# EAGLE library part 4020152 (library ampex)
RECORD EXTENDER
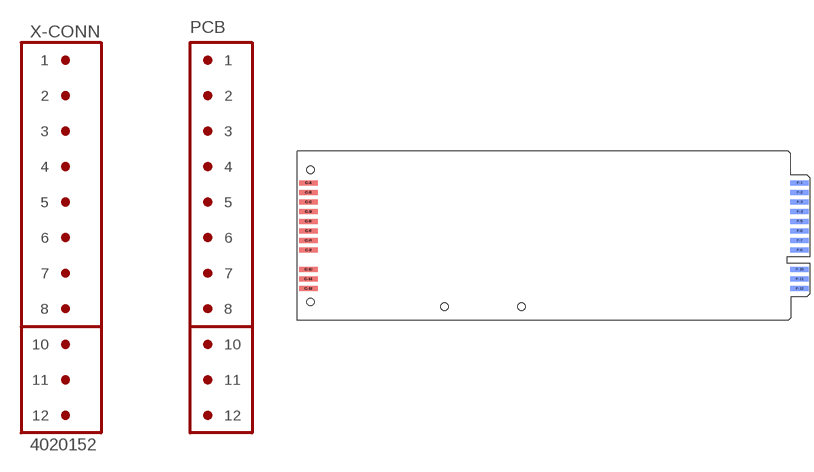
[diagram p15: symbol with the pads of 4020152; footprint 4020152]

Designator prefix X; gates -FINGER=REC-EXT-EDGE -CONN=REC-EXT-CON

## 4020152  [4020152]
C-1  -CONN:1  pas
C-2  -CONN:2  pas
C-3  -CONN:3  pas
C-4  -CONN:4  pas
C-5  -CONN:5  pas
C-6  -CONN:6  pas
C-7  -CONN:7  pas
C-8  -CONN:8  pas
C-10  -CONN:10  pas
C-11  -CONN:11  pas
C-12  -CONN:12  pas
C-A  -CONN:A  pas
C-B  -CONN:B  pas
C-C  -CONN:C  pas
C-D  -CONN:D  pas
C-E  -CONN:E  pas
C-F  -CONN:F  pas
C-H  -CONN:H  pas
C-J  -CONN:J  pas
C-L  -CONN:L  pas
C-M  -CONN:M  pas
C-N  -CONN:N  pas
F-1  -FINGER:1  pas
F-2  -FINGER:2  pas
F-3  -FINGER:3  pas
F-4  -FINGER:4  pas
F-5  -FINGER:5  pas
F-6  -FINGER:6  pas
F-7  -FINGER:7  pas
F-8  -FINGER:8  pas
F-10  -FINGER:10  pas
F-11  -FINGER:11  pas
F-12  -FINGER:12  pas

## Footprint 4020152 (pad centres in mm)
RECORD EXTENDER Grid 0.00975"
smd 7.62 x 2.032 bottom: C-1 -127.114,21.793; C-2 -127.114,17.831; C-3 -127.114,13.868; C-4 -127.114,9.906; C-5 -127.114,5.944; C-6 -127.114,1.981; C-7 -127.114,-1.981; C-8 -127.114,-5.944; C-10 -127.114,-13.868; C-11 -127.114,-17.831; C-12 -127.114,-21.793; F-1 74.968,21.793; F-2 74.968,17.831; F-3 74.968,13.868; F-4 74.968,9.906; F-5 74.968,5.944; F-6 74.968,1.981; F-7 74.968,-1.981; F-8 74.968,-5.944; F-10 74.968,-13.868; F-11 74.968,-17.831; F-12 74.968,-21.793
smd 7.62 x 2.032: C-A -127.114,21.793; C-B -127.114,17.831; C-C -127.114,13.868; C-D -127.114,9.906; C-E -127.114,5.944; C-F -127.114,1.981; C-H -127.114,-1.981; C-J -127.114,-5.944; C-L -127.114,-13.868; C-M -127.114,-17.831; C-N -127.114,-21.793
hole 3.048 at -126.276,27.241
hole 3.048 at -126.276,-27.241
hole 3.048 at -71.12,-29.21
hole 3.048 at -39.37,-29.21